# Altium integrated library Renesas Microcontroller H8S.IntLib: 670 symbols (part 26 of 70)
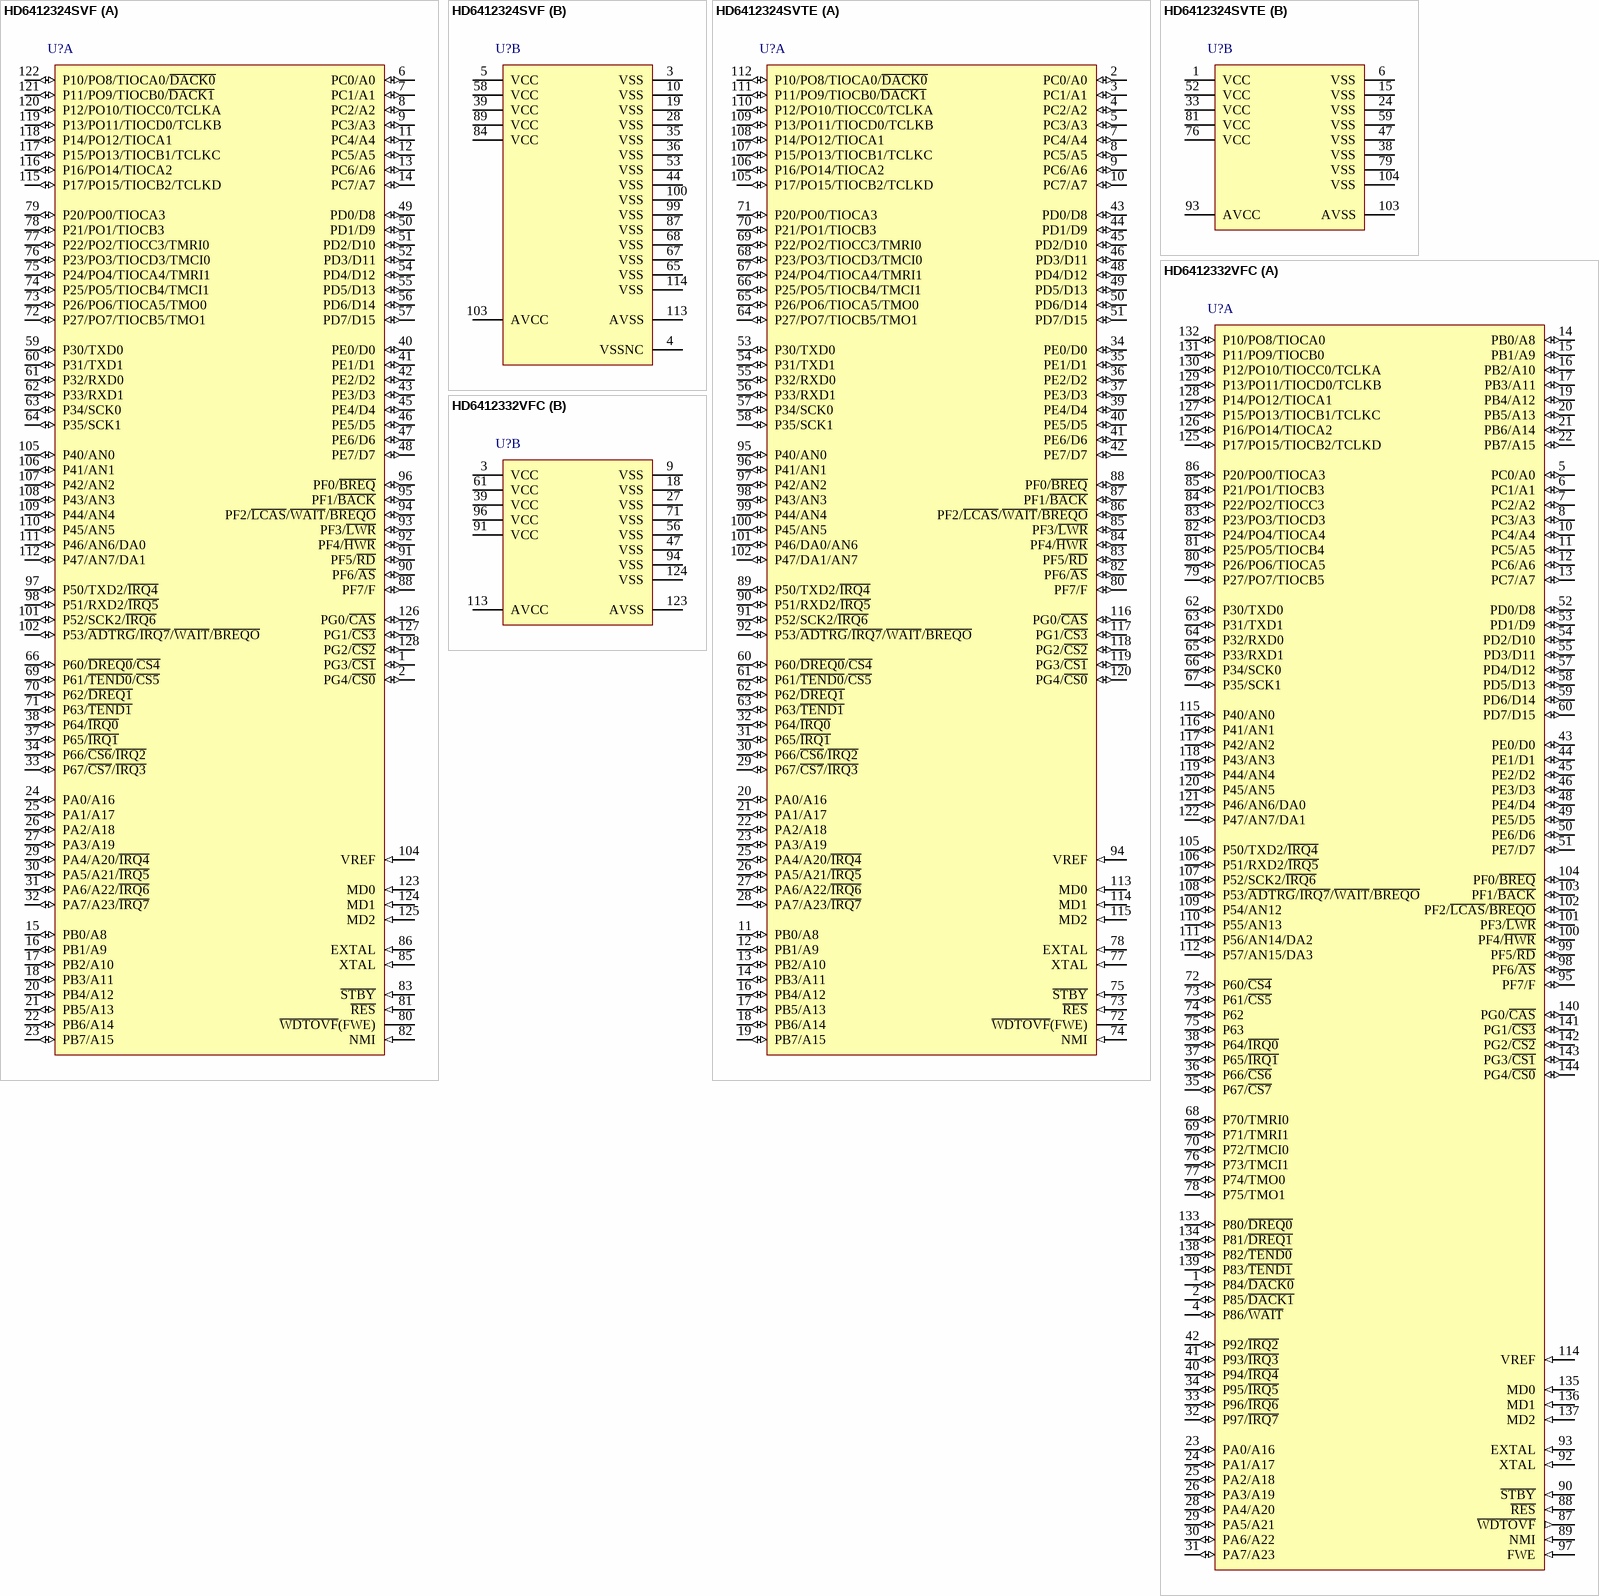
[diagram p357: symbols HD6412324SVF to HD6412332VFC]

## HD6412324SVTE
designator U?
ROMless H8S/2300 Series, 2329 Group MCU, 32K RAM, TFP-120 Pkg; Published: 28-Aug-2009; DatasheetVersion: Rev.6.00, Sep-2007; PackageVersion: Sep-2005; PackageReference: PTQP0120LA-A; Publisher: Altium Limited; PackageDescription: 120-Pin Plastic Thin QFP, 14 x 14 x 1.0 mm Body, 0.4 mm Pitch; Code_JEITA: P-TQFP120-14x14-0.40; ComponentLink1Description: Manufacturer Link; ComponentLink1URL: http://sg.renesas.com/fmwk.jsp?cnt=h8s_family_landing.jsp&fp=/products/mpumcu/h8s_family/; ComponentLink2Description: Datasheet; ComponentLink2URL: http://documentation.renesas.com/eng/products/mpumcu/rej09b0220_h8s2329.pdf; ComponentLink3Description: Packaging Specification; ComponentLink3URL: http://sg.renesas.com/media/products/common_info/package/pdf/ic/code/ptqp0120la_a.pdf
footprint PTQP0120LA-A_N (Thin QFP, 120-Leads, Body 14x14mm, Pitch 0.4mm, IPC Medium Density)
footprint PTQP0120LA-A_L (Thin QFP, 120-Leads, Body 14x14mm, Pitch 0.4mm, IPC High Density)
footprint PTQP0120LA-A_M (Thin QFP, 120-Leads, Body 14x14mm, Pitch 0.4mm, IPC Low Density)
part A pins: 2 PC0/A0 (io), 3 PC1/A1 (io), 4 PC2/A2 (io), 5 PC3/A3 (io), 7 PC4/A4 (io), 8 PC5/A5 (io), 9 PC6/A6 (io), 10 PC7/A7 (io), 11 PB0/A8 (io), 12 PB1/A9 (io), 13 PB2/A10 (io), 14 PB3/A11 (io), 16 PB4/A12 (io), 17 PB5/A13 (io), 18 PB6/A14 (io), 19 PB7/A15 (io), 20 PA0/A16 (io), 21 PA1/A17 (io), 22 PA2/A18 (io), 23 PA3/A19 (io), 25 PA4/A20/~{IRQ4} (io), 26 PA5/A21/~{IRQ5} (io), 27 PA6/A22/~{IRQ6} (io), 28 PA7/A23/~{IRQ7} (io), 29 P67/~{CS7}/~{IRQ3} (io), 30 P66/~{CS6}/~{IRQ2} (io), 31 P65/~{IRQ1} (io), 32 P64/~{IRQ0} (io), 34 PE0/D0 (io), 35 PE1/D1 (io), 36 PE2/D2 (io), 37 PE3/D3 (io), 39 PE4/D4 (io), 40 PE5/D5 (io), 41 PE6/D6 (io), 42 PE7/D7 (io), 43 PD0/D8 (io), 44 PD1/D9 (io), 45 PD2/D10 (io), 46 PD3/D11 (io), 48 PD4/D12 (io), 49 PD5/D13 (io), 50 PD6/D14 (io), 51 PD7/D15 (io), 53 P30/TXD0 (io), 54 P31/TXD1 (io), 55 P32/RXD0 (io), 56 P33/RXD1 (io), 57 P34/SCK0 (io), 58 P35/SCK1 (io), 60 P60/~{DREQ0}/~{CS4} (io), 61 P61/~{TEND0}/~{CS5} (io), 62 P62/~{DREQ1} (io), 63 P63/~{TEND1} (io), 64 P27/PO7/TIOCB5/TMO1 (io), 65 P26/PO6/TIOCA5/TMO0 (io), 66 P25/PO5/TIOCB4/TMCI1 (io), 67 P24/PO4/TIOCA4/TMRI1 (io), 68 P23/PO3/TIOCD3/TMCI0 (io), 69 P22/PO2/TIOCC3/TMRI0 (io), 70 P21/PO1/TIOCB3 (io), 71 P20/PO0/TIOCA3 (io), 72 ~{WDTOVF}(FWE), 73 ~{RES} (in), 74 NMI (in), 75 ~{STBY} (in), 77 XTAL (in), 78 EXTAL (in), 80 PF7/F (io), 82 PF6/~{AS} (io), 83 PF5/~{RD} (io), 84 PF4/~{HWR} (io), 85 PF3/~{LWR} (io), 86 PF2/~{LCAS}/~{WAIT}/~{BREQO} (io), 87 PF1/~{BACK} (io), 88 PF0/~{BREQ} (io), 89 P50/TXD2/~{IRQ4} (io), 90 P51/RXD2/~{IRQ5} (io), 91 P52/SCK2/~{IRQ6} (io), 92 P53/~{ADTRG}/~{IRQ7}/~{WAIT}/~{BREQO} (io), 94 VREF (in), 95 P40/AN0 (io), 96 P41/AN1 (io), 97 P42/AN2 (io), 98 P43/AN3 (io), 99 P44/AN4 (io), 100 P45/AN5 (io), 101 P46/DA0/AN6 (io), 102 P47/DA1/AN7 (io), 105 P17/PO15/TIOCB2/TCLKD (io), 106 P16/PO14/TIOCA2 (io), 107 P15/PO13/TIOCB1/TCLKC (io), 108 P14/PO12/TIOCA1 (io), 109 P13/PO11/TIOCD0/TCLKB (io), 110 P12/PO10/TIOCC0/TCLKA (io), 111 P11/PO9/TIOCB0/~{DACK1} (io), 112 P10/PO8/TIOCA0/~{DACK0} (io), 113 MD0 (in), 114 MD1 (in), 115 MD2 (in), 116 PG0/~{CAS} (io), 117 PG1/~{CS3} (io), 118 PG2/~{CS2} (io), 119 PG3/~{CS1} (io), 120 PG4/~{CS0} (io)
part B pins: 1 VCC (power), 6 VSS (power), 15 VSS (power), 24 VSS (power), 33 VCC (power), 38 VSS (power), 47 VSS (power), 52 VCC (power), 59 VSS (power), 76 VCC (power), 79 VSS (power), 81 VCC (power), 93 AVCC (power), 103 AVSS (power), 104 VSS (power)

## HD6412332VFC
designator U?
ROMless H8S/2300 Series, 2339 Group MCU, 8K RAM, FP-144G Pkg; Published: 28-Aug-2009; DatasheetVersion: Rev.4.00, Sep-2007; PackageVersion: Sep-2005; PackageReference: PRQP0144KA-A; Publisher: Altium Limited; PackageDescription: 144-Pin Plastic Quad Flat Pack, 20 x 20 x 2.7 mm Body, 0.5 mm Pitch; Code_JEITA: P-QFP144-20x20-0.50; ComponentLink1Description: Manufacturer Link; ComponentLink1URL: http://sg.renesas.com/fmwk.jsp?cnt=h8s_family_landing.jsp&fp=/products/mpumcu/h8s_family/; ComponentLink2Description: Datasheet; ComponentLink2URL: http://documentation.renesas.com/eng/products/mpumcu/rej09b0245_2339.pdf; ComponentLink3Description: Packaging Specification; ComponentLink3URL: http://sg.renesas.com/media/products/common_info/package/pdf/ic/code/prqp0144ka_a.pdf
footprint PRQP0144KA-A_N (Shrink QFP, 144-Leads, Body 20x20mm, Pitch 0.5mm, IPC Medium Density)
footprint PRQP0144KA-A_L (Shrink QFP, 144-Leads, Body 20x20mm, Pitch 0.5mm, IPC High Density)
footprint PRQP0144KA-A_M (Shrink QFP, 144-Leads, Body 20x20mm, Pitch 0.5mm, IPC Low Density)
part A pins: 1 P84/~{DACK0} (io), 2 P85/~{DACK1} (io), 4 P86/~{WAIT} (io), 5 PC0/A0 (io), 6 PC1/A1 (io), 7 PC2/A2 (io), 8 PC3/A3 (io), 10 PC4/A4 (io), 11 PC5/A5 (io), 12 PC6/A6 (io), 13 PC7/A7 (io), 14 PB0/A8 (io), 15 PB1/A9 (io), 16 PB2/A10 (io), 17 PB3/A11 (io), 19 PB4/A12 (io), 20 PB5/A13 (io), 21 PB6/A14 (io), 22 PB7/A15 (io), 23 PA0/A16 (io), 24 PA1/A17 (io), 25 PA2/A18 (io), 26 PA3/A19 (io), 28 PA4/A20 (io), 29 PA5/A21 (io), 30 PA6/A22 (io), 31 PA7/A23 (io), 32 P97/~{IRQ7} (io), 33 P96/~{IRQ6} (io), 34 P95/~{IRQ5} (io), 35 P67/~{CS7} (io), 36 P66/~{CS6} (io), 37 P65/~{IRQ1} (io), 38 P64/~{IRQ0} (io), 40 P94/~{IRQ4} (io), 41 P93/~{IRQ3} (io), 42 P92/~{IRQ2} (io), 43 PE0/D0 (io), 44 PE1/D1 (io), 45 PE2/D2 (io), 46 PE3/D3 (io), 48 PE4/D4 (io), 49 PE5/D5 (io), 50 PE6/D6 (io), 51 PE7/D7 (io), 52 PD0/D8 (io), 53 PD1/D9 (io), 54 PD2/D10 (io), 55 PD3/D11 (io), 57 PD4/D12 (io), 58 PD5/D13 (io), 59 PD6/D14 (io), 60 PD7/D15 (io), 62 P30/TXD0 (io), 63 P31/TXD1 (io), 64 P32/RXD0 (io), 65 P33/RXD1 (io), 66 P34/SCK0 (io), 67 P35/SCK1 (io), 68 P70/TMRI0 (io), 69 P71/TMRI1 (io), 70 P72/TMCI0 (io), 72 P60/~{CS4} (io), 73 P61/~{CS5} (io), 74 P62 (io), 75 P63 (io), 76 P73/TMCI1 (io), 77 P74/TMO0 (io), 78 P75/TMO1 (io), 79 P27/PO7/TIOCB5 (io), 80 P26/PO6/TIOCA5 (io), 81 P25/PO5/TIOCB4 (io), 82 P24/PO4/TIOCA4 (io), 83 P23/PO3/TIOCD3 (io), 84 P22/PO2/TIOCC3 (io), 85 P21/PO1/TIOCB3 (io), 86 P20/PO0/TIOCA3 (io), 87 ~{WDTOVF} (out), 88 ~{RES} (in), 89 NMI (in), 90 ~{STBY} (in), 92 XTAL (in), 93 EXTAL (in), 95 PF7/F (io), 97 FWE (in), 98 PF6/~{AS} (io), 99 PF5/~{RD} (io), 100 PF4/~{HWR} (io), 101 PF3/~{LWR} (io), 102 PF2/~{LCAS}/~{BREQO} (io), 103 PF1/~{BACK} (io), 104 PF0/~{BREQ} (io), 105 P50/TXD2/~{IRQ4} (io), 106 P51/RXD2/~{IRQ5} (io), 107 P52/SCK2/~{IRQ6} (io), 108 P53/~{ADTRG}/~{IRQ7}/~{WAIT}/~{BREQO} (io), 109 P54/AN12 (io), 110 P55/AN13 (io), 111 P56/AN14/DA2 (io), 112 P57/AN15/DA3 (io), 114 VREF (in), 115 P40/AN0 (io), 116 P41/AN1 (io), 117 P42/AN2 (io), 118 P43/AN3 (io), 119 P44/AN4 (io), 120 P45/AN5 (io), 121 P46/AN6/DA0 (io), 122 P47/AN7/DA1 (io), 125 P17/PO15/TIOCB2/TCLKD (io), 126 P16/PO14/TIOCA2 (io), 127 P15/PO13/TIOCB1/TCLKC (io), 128 P14/PO12/TIOCA1 (io), 129 P13/PO11/TIOCD0/TCLKB (io), 130 P12/PO10/TIOCC0/TCLKA (io), 131 P11/PO9/TIOCB0 (io), 132 P10/PO8/TIOCA0 (io), 133 P80/~{DREQ0} (io), 134 P81/~{DREQ1} (io), 135 MD0 (in), 136 MD1 (in), 137 MD2 (in), 138 P82/~{TEND0} (io), 139 P83/~{TEND1} (io), 140 PG0/~{CAS} (io), 141 PG1/~{CS3} (io), 142 PG2/~{CS2} (io), 143 PG3/~{CS1} (io), 144 PG4/~{CS0} (io)
part B pins: 3 VCC (power), 9 VSS (power), 18 VSS (power), 27 VSS (power), 39 VCC (power), 47 VSS (power), 56 VSS (power), 61 VCC (power), 71 VSS (power), 91 VCC (power), 94 VSS (power), 96 VCC (power), 113 AVCC (power), 123 AVSS (power), 124 VSS (power)

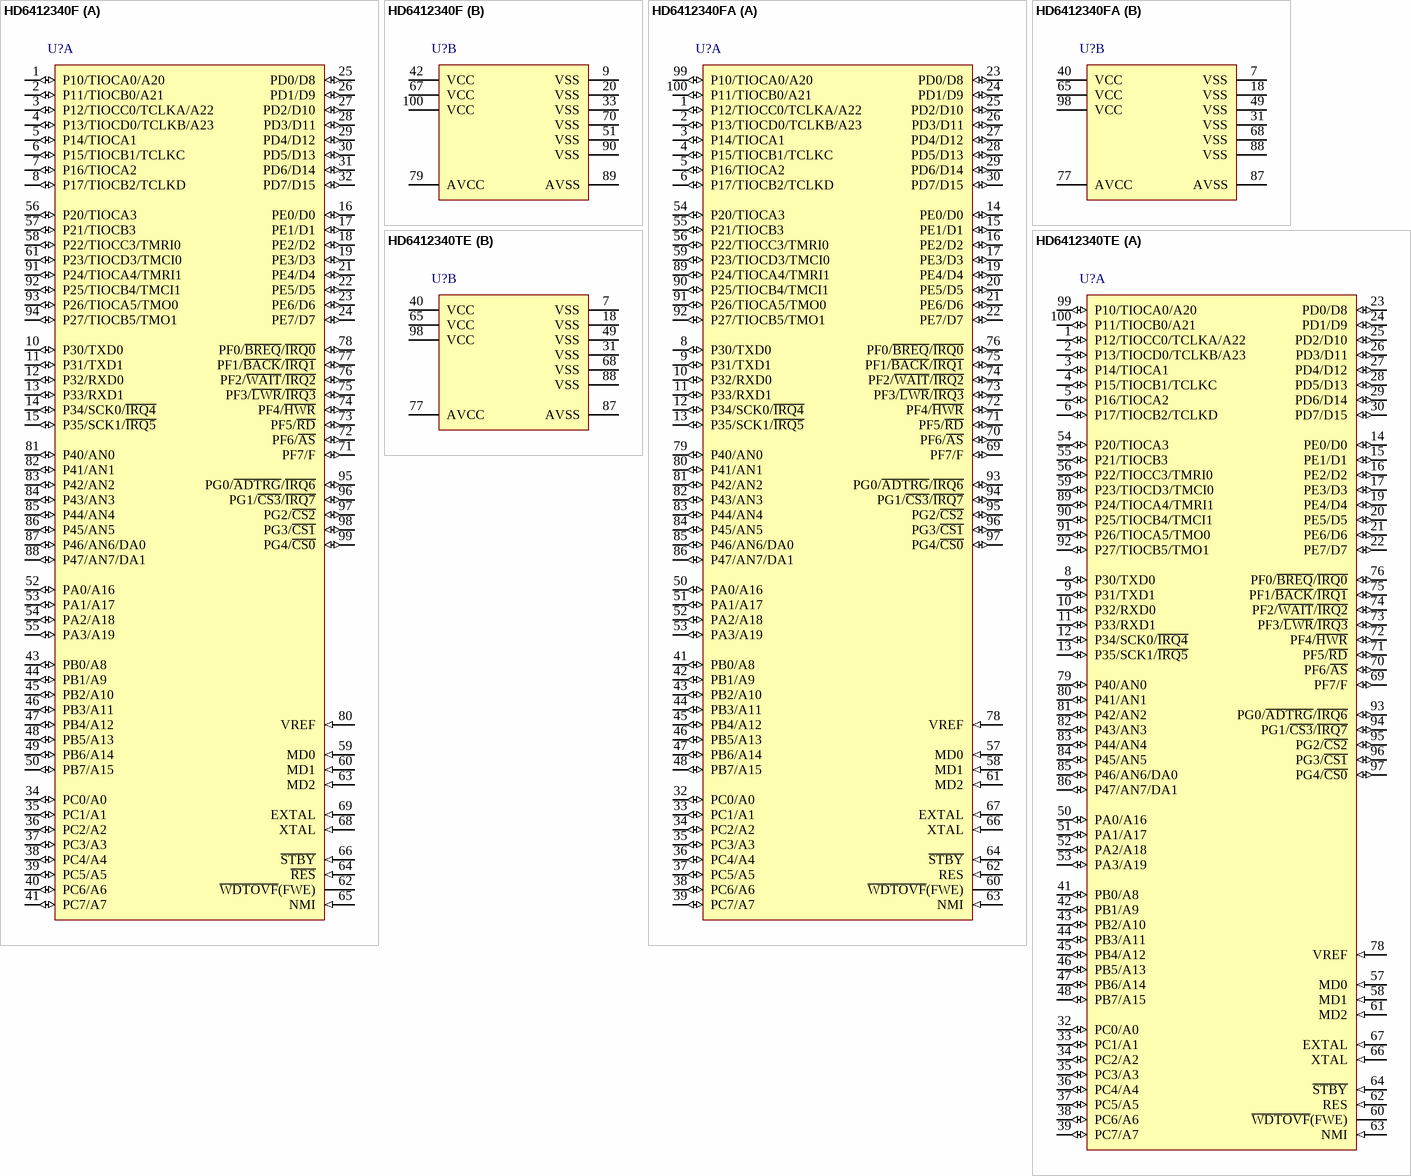
[diagram p92: symbols HD6412340F to HD6412340TE]

## HD6412340F
designator U?
ROMless H8S/2300 Series, 2345 Group MCU, 2K RAM, FP-100A Pkg; Published: 28-Aug-2009; DatasheetVersion: Rev.4.00, Feb-2006; PackageVersion: Sep-2005; PackageReference: PRQP0100JE-B; Publisher: Altium Limited; PackageDescription: 100-Pin Plastic Quad Flat Pack, 20 x 14 x 2.7 mm Body, 0.65 mm Pitch; Code_JEITA: P-QFP100-14x20-0.65; ComponentLink1Description: Manufacturer Link; ComponentLink1URL: http://sg.renesas.com/fmwk.jsp?cnt=h8s_family_landing.jsp&fp=/products/mpumcu/h8s_family/; ComponentLink2Description: Datasheet; ComponentLink2URL: http://documentation.renesas.com/eng/products/mpumcu/rej09b0291_2345hm.pdf; ComponentLink3Description: Packaging Specification; ComponentLink3URL: http://sg.renesas.com/media/products/common_info/package/pdf/ic/code/prqp0100je_b.pdf
footprint PRQP0100JE-B_N (QFP, 100-Leads, Body 20x14mm, Pitch 0.65mm, IPC Medium Density)
footprint PRQP0100JE-B_L (QFP, 100-Leads, Body 20x14mm, Pitch 0.65mm, IPC High Density)
footprint PRQP0100JE-B_M (QFP, 100-Leads, Body 20x14mm, Pitch 0.65mm, IPC Low Density)
part A pins: 1 P10/TIOCA0/A20 (io), 2 P11/TIOCB0/A21 (io), 3 P12/TIOCC0/TCLKA/A22 (io), 4 P13/TIOCD0/TCLKB/A23 (io), 5 P14/TIOCA1 (io), 6 P15/TIOCB1/TCLKC (io), 7 P16/TIOCA2 (io), 8 P17/TIOCB2/TCLKD (io), 10 P30/TXD0 (io), 11 P31/TXD1 (io), 12 P32/RXD0 (io), 13 P33/RXD1 (io), 14 P34/SCK0/~{IRQ4} (io), 15 P35/SCK1/~{IRQ5} (io), 16 PE0/D0 (io), 17 PE1/D1 (io), 18 PE2/D2 (io), 19 PE3/D3 (io), 21 PE4/D4 (io), 22 PE5/D5 (io), 23 PE6/D6 (io), 24 PE7/D7 (io), 25 PD0/D8 (io), 26 PD1/D9 (io), 27 PD2/D10 (io), 28 PD3/D11 (io), 29 PD4/D12 (io), 30 PD5/D13 (io), 31 PD6/D14 (io), 32 PD7/D15 (io), 34 PC0/A0 (io), 35 PC1/A1 (io), 36 PC2/A2 (io), 37 PC3/A3 (io), 38 PC4/A4 (io), 39 PC5/A5 (io), 40 PC6/A6 (io), 41 PC7/A7 (io), 43 PB0/A8 (io), 44 PB1/A9 (io), 45 PB2/A10 (io), 46 PB3/A11 (io), 47 PB4/A12 (io), 48 PB5/A13 (io), 49 PB6/A14 (io), 50 PB7/A15 (io), 52 PA0/A16 (io), 53 PA1/A17 (io), 54 PA2/A18 (io), 55 PA3/A19 (io), 56 P20/TIOCA3 (io), 57 P21/TIOCB3 (io), 58 P22/TIOCC3/TMRI0 (io), 59 MD0 (in), 60 MD1 (in), 61 P23/TIOCD3/TMCI0 (io), 62 ~{WDTOVF}(FWE), 63 MD2 (in), 64 ~{RES} (in), 65 NMI (in), 66 ~{STBY} (in), 68 XTAL (in), 69 EXTAL (in), 71 PF7/F (io), 72 PF6/~{AS} (io), 73 PF5/~{RD} (io), 74 PF4/~{HWR} (io), 75 PF3/~{LWR}/~{IRQ3} (io), 76 PF2/~{WAIT}/~{IRQ2} (io), 77 PF1/~{BACK}/~{IRQ1} (io), 78 PF0/~{BREQ}/~{IRQ0} (io), 80 VREF (in), 81 P40/AN0 (io), 82 P41/AN1 (io), 83 P42/AN2 (io), 84 P43/AN3 (io), 85 P44/AN4 (io), 86 P45/AN5 (io), 87 P46/AN6/DA0 (io), 88 P47/AN7/DA1 (io), 91 P24/TIOCA4/TMRI1 (io), 92 P25/TIOCB4/TMCI1 (io), 93 P26/TIOCA5/TMO0 (io), 94 P27/TIOCB5/TMO1 (io), 95 PG0/~{ADTRG}/~{IRQ6} (io), 96 PG1/~{CS3}/~{IRQ7} (io), 97 PG2/~{CS2} (io), 98 PG3/~{CS1} (io), 99 PG4/~{CS0} (io)
part B pins: 9 VSS (power), 20 VSS (power), 33 VSS (power), 42 VCC (power), 51 VSS (power), 67 VCC (power), 70 VSS (power), 79 AVCC (power), 89 AVSS (power), 90 VSS (power), 100 VCC (power)